# Altium footprint library Resistor.PcbLib: 34 footprints (part 1 of 3)
Each footprint in its own frame and in the unit in brackets; x right, y up, seen from the top. Pads: shape width x height; smd on the part's side, far side on the other; paste and mask are expansions set on the pad; w line width, h text height; cw(c..) or ccw(c..) is an arc to the next point about the centre after c.
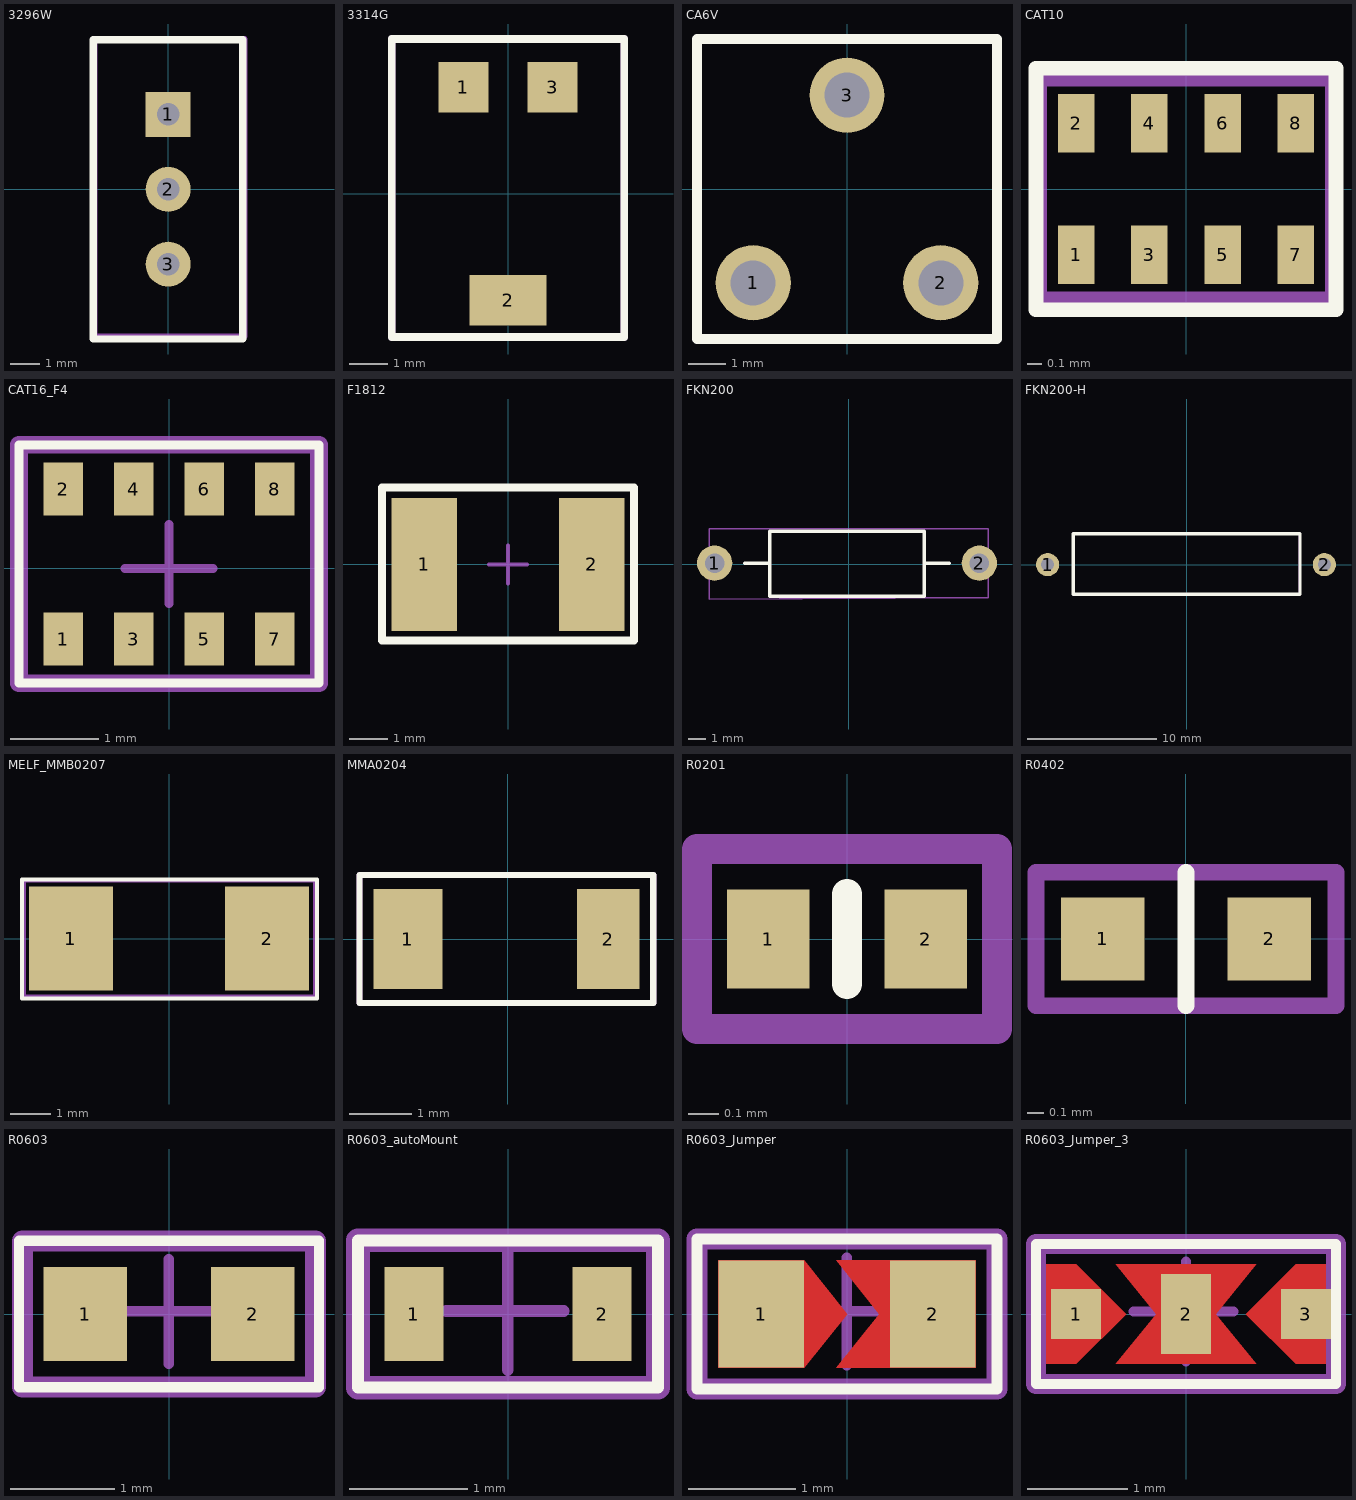
[diagram p0: the footprints below, top view; thin cyan lines are the x and y axes]

## 3296W [mil]
pads (3):
  rect 60x60 hole 30: 1(0,100)
  round 60 hole 30: 2(0,0) 3(0,-100)
Top Overlay:
  lines w10: -100,-200 100,-200 100,200 -100,200 -100,-200
ASSEMBLY_TOP:
  lines w7.87: -98.43,-196.85 -98.43,200.79 102.36,200.79 102.36,-196.85 -98.43,-196.85
  text ".Designator" at -7.87,122.05 h60
3D body: height 444.85, standoff -128.15, extent -95,-188 95,188

## 3314G [mm]
pads (3):
  rect 1.3x1.3 smd: 1(-1.15,2.75) 3(1.15,2.75)
  rect 2x1.3 smd: 2(0,-2.75)
Top Overlay:
  lines w0.2: -3,-3.7 -3,4 3,4 3,-3.7 -3,-3.7
ASSEMBLY_TOP:
  lines w0.2: -3,-3.7 -3,4 3,4 3,-3.7 -3,-3.7
  text ".Designator" at -2.6,-0.9 h1.52
3D body: height 2.67, standoff -0.06, extent -2.5,-3.1 2.5,3.098

## CA6V [mm]
pads (3):
  round 2 hole 1.2: 1(-2.5,-2.5) 2(2.5,-2.5) 3(0,2.5)
Top Overlay:
  lines w0.254: -4,-4 4,-4 4,4 -4,4 -4,-4
ASSEMBLY_TOP:
  lines w0.2: -4,-4 -4,4 4,4 4,-4 -4,-4
  text ".Designator" at -3.2,-0.2 h1.52
3D body: height 5, standoff 0, extent -3.81,-3.81 3.81,3.81

## CAT10 [mm]
pads (8):
  rect 0.25x0.4 smd mask+0.05: 1(-0.75,-0.45) 2(-0.75,0.45) 3(-0.25,-0.45) 4(-0.25,0.45) 5(0.25,-0.45) 6(0.25,0.45) 7(0.75,-0.45) 8(0.75,0.45)
Top Overlay:
  lines w0.1: -1.025,-0.825 -1.025,0.825 1.025,0.825 1.025,-0.825 -1.025,-0.825
ASSEMBLY_TOP:
  lines w0.1: -1,-0.75 1,-0.75 1,0.75 -1,0.75 -1,-0.75
3D body: height 0.39, standoff -0.01, extent -1,-0.5 1,0.5

## CAT16_F4 [mm]
pads (8):
  rect 0.45x0.6 smd: 1(-1.2,-0.8) 2(-1.2,0.9) 3(-0.4,-0.8) 4(-0.4,0.9) 5(0.4,-0.8) 6(0.4,0.9) 7(1.2,-0.8) 8(1.2,0.9)
Top Overlay:
  lines w0.1: -1.7,-1.3 -1.7,1.4 1.7,1.4 1.7,-1.3 -1.7,-1.3
ASSEMBLY_TOP:
  lines w0.2: -1.7,-1.3 1.7,-1.3 1.7,1.4 -1.7,1.4 -1.7,-1.3
  text ".Designator" at -1.4,-0.6 h1.52
Mechanical 15:
  lines w0.1: -0.5,0 0.5,0 ; 0,-0.4 0,0.5
3D body: height 0.5, standoff 0, extent -1.6,-0.6 1.6,1

## F1812 [mm] "Fuse"
pads (2):
  rect 1.7x3.45 smd: 1(-2.175,0) 2(2.175,0)
Top Overlay:
  lines w0.2: -3.275,-1.975 -3.275,2 3.275,2 3.275,-1.975 -3.275,-1.975
Mechanical 15:
  lines w0.1: -0.5,0 0.5,0 ; 0,-0.5 0,0.5
3D body: height 1.34, standoff 0, extent -2.315,-1.68 2.415,1.73

## FKN200 [mm]
pads (2):
  round 2 hole 1.1: 1(-7.6,0.05) 2(7.4,0.05)
Top Overlay:
  lines w0.2: -5.9,0.05 -4.5,0.05 ; 4.3,0.05 5.7,0.05 ; -4.471,-1.823 -4.471,1.857 4.269,1.857 4.269,-1.823 -4.471,-1.823
ASSEMBLY_TOP:
  lines w0.1: -7.9,-2 -7.9,2 7.9,2 7.9,-1.9 -7.9,-2
  text ".Designator" at -3.4,-0.2 h1.52
3D body: height 4.5, standoff -1.94, extent -7.9,-1.95 7.9,2.05

## FKN200-H [mm]
pads (2):
  round 1.8 hole 1: 1(-10.8,0) 2(10.7,0)
Top Overlay:
  lines w0.254: -8.8,-2.3 -8.8,2.4 8.8,2.4 8.8,-2.3 -8.8,-2.3
ASSEMBLY_TOP:
  lines w0.2: -8.8,-2.3 -8.8,2.4 8.8,2.4 8.8,-2.3 -8.8,-2.3
  text ".Designator" at -3.7,-0.6 h1.52
3D body: height 5.6, standoff -2.25, extent -11.148,-2.6 11.148,2.6

## MELF_MMB0207 [mm]
pads (2):
  rect 2.1x2.6 smd: 1(-2.45,0) 2(2.45,0)
Top Overlay:
  lines w0.1: -3.675,-1.5 3.7,-1.5 3.7,1.475 -3.675,1.475 -3.675,-1.5
ASSEMBLY_TOP:
  lines w0.1: -3.625,-1.45 -3.625,1.45 3.65,1.45 3.65,-1.45 -3.625,-1.45
  text ".Designator" at -3.925,-0.325 h1.52
3D body: height 2.2, standoff 0, extent -2.9,-1.1 2.9,1.1

## MMA0204 [mm]
height 2.65
pads (2):
  rect 1.1x1.6 smd: 1(-1.6,0)
  rect 1x1.6 smd: 2(1.6,0)
Top Overlay:
  lines w0.1: -2.375,-1.025 -2.375,1.025 2.325,1.025 2.325,-1.025 -2.375,-1.025
ASSEMBLY_TOP:
  lines w0.1: -2.375,-1.025 2.325,-1.025 2.325,1.025 -2.375,1.025 -2.375,-1.025
  text ".Designator" at -3.925,-0.325 h1.52
3D body: height 0.7, standoff -0.7, extent -1.825,-0.725 1.775,0.675

## R0201 [mm]
pads (2):
  rect 0.275x0.33 smd: 1(-0.262,0) 2(0.262,0)
Top Overlay:
  lines w0.1: 0,-0.15 0,0.15
ASSEMBLY_TOP:
  lines w0.1: -0.5,-0.3 0.5,-0.3 0.5,0.3 -0.5,0.3 -0.5,-0.3
  text ".Designator" at -0.5,0.5 h1.52
3D body: height 0.25, standoff -0.01, extent -0.3,-0.15 0.3,0.15

## R0402 [mm]
pads (2):
  rect 0.5x0.5 smd: 1(-0.5,0) 2(0.5,0)
Top Overlay:
  lines w0.1: 0,-0.4 0,0.4
ASSEMBLY_TOP:
  lines w0.1: -0.9,-0.4 -0.9,0.4 0.9,0.4 0.9,-0.4 -0.9,-0.4
  text ".Designator" at -0.5,-0.2 h1.52
3D body: height 0.25, standoff 0, extent -0.5,-0.25 0.5,0.25

## R0603 [mm]
pads (2):
  rect 0.8x0.9 smd: 1(-0.8,0) 2(0.8,0)
Top Overlay:
  lines w0.1: -1.435,-0.7 1.435,-0.7 1.435,0.7 -1.435,0.7 -1.435,-0.7
ASSEMBLY_TOP:
  lines w0.2: -1.4,-0.7 1.4,-0.7 1.4,0.7 -1.4,0.7 -1.4,-0.7
  text ".Designator" at -0.6,1.3 h1.52
Mechanical 15:
  lines w0.1: -0.527,0.025 0.473,0.025 ; -0.002,-0.475 -0.002,0.525
3D body: height 0.56, standoff 0, extent -0.85,-0.4 0.85,0.4

## R0603_autoMount [mm]
pads (2):
  rect 0.5x0.8 smd: 1(-0.8,0) 2(0.8,0)
Top Overlay:
  lines w0.1: -1.275,-0.625 -1.275,0.625 1.275,0.625 1.275,-0.625 -1.275,-0.625
ASSEMBLY_TOP:
  lines w0.2: -1.275,-0.625 -1.275,0.625 1.275,0.625 1.275,-0.625 -1.275,-0.625
  text ".Designator" at -1.05,-0.425 h1.52
Mechanical 15:
  lines w0.1: -0.527,0.025 0.473,0.025 ; -0.002,-0.475 -0.002,0.525
3D body: height 0.56, standoff 0, extent -0.85,-0.4 0.85,0.4

## R0603_Jumper [mm]
pads (2):
  rect 0.8x1 smd: 1(-0.8,0) 2(0.8,0)
Top Layer:
  region: -1.2,0.5 -0.4,0.5 0,0 -0.4,-0.5 -1.2,-0.5
  region: 1.2,0.5 -0.1,0.5 0.3,0 -0.1,-0.5 1.2,-0.5
Top Overlay:
  lines w0.1: -1.4,-0.7 1.4,-0.7 1.4,0.7 -1.4,0.7 -1.4,-0.7
ASSEMBLY_TOP:
  lines w0.2: -1.4,-0.7 -1.4,0.7 1.4,0.7 1.4,-0.7 -1.4,-0.7
  text ".Designator" at -1.1,-0.4 h1.52
Mechanical 15:
  lines w0.1: -0.527,0.025 0.473,0.025 ; -0.002,-0.475 -0.002,0.525

## R0603_Jumper_3 [mm]
pads (3):
  rect 0.5x0.5 smd: 1(-1.1,0) 3(1.2,0)
  rect 0.5x0.8 smd: 2(0,0)
Top Layer:
  region: -0.6,0 -1.1,-0.5 -1.4,-0.5 -1.4,0.5 -1.1,0.5
  region: -0.7,-0.5 -0.3,0 -0.7,0.5 0.7,0.5 0.3,0 0.7,-0.5
  region: 0.6,0 1.1,-0.5 1.4,-0.5 1.4,0.5 1.1,0.5
Top Overlay:
  lines w0.1: -1.5,-0.7 -1.5,0.7 1.5,0.7 1.5,-0.7 -1.5,-0.7
ASSEMBLY_TOP:
  lines w0.2: -1.5,-0.7 1.5,-0.7 1.5,0.7 -1.5,0.7 -1.5,-0.7
  text ".Designator" at -1.1,-0.4 h1.52
Mechanical 15:
  lines w0.1: -0.527,0.025 0.473,0.025 ; -0.002,-0.475 -0.002,0.525